# EAGLE library part 87264-30 (library con-molex-milli-grid)
RECEPTACAL
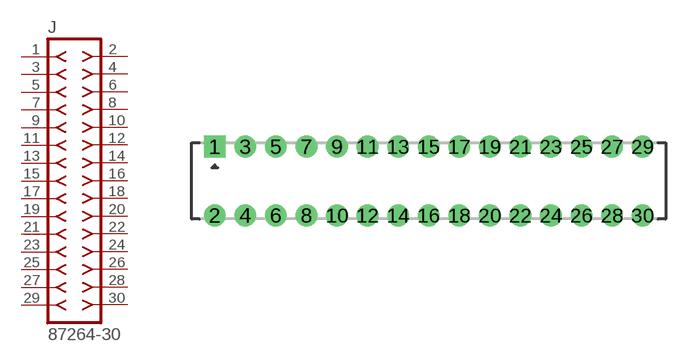
[diagram p216: symbol with the pads of 87264-30; footprint 87264-30]

Designator prefix J

## 87264-30  [87264-30]
1  1  pas
2  2  pas
3  3  pas
4  4  pas
5  5  pas
6  6  pas
7  7  pas
8  8  pas
9  9  pas
10  10  pas
11  11  pas
12  12  pas
13  13  pas
14  14  pas
15  15  pas
16  16  pas
17  17  pas
18  18  pas
19  19  pas
20  20  pas
21  21  pas
22  22  pas
23  23  pas
24  24  pas
25  25  pas
26  26  pas
27  27  pas
28  28  pas
29  29  pas
30  30  pas

## Footprint 87264-30 (pad centres in mm)
RECEPTACAL Dual Row, Side Entry
drill 0.914 square: 1 -14,2.25
drill 0.914: 2 -14,-2.25; 3 -12,2.25; 4 -12,-2.25; 5 -10,2.25; 6 -10,-2.25; 7 -8,2.25; 8 -8,-2.25; 9 -6,2.25; 10 -6,-2.25; 11 -4,2.25; 12 -4,-2.25; 13 -2,2.25; 14 -2,-2.25; 15 0,2.25; 16 0,-2.25; 17 2,2.25; 18 2,-2.25; 19 4,2.25; 20 4,-2.25; 21 6,2.25; 22 6,-2.25; 23 8,2.25; 24 8,-2.25; 25 10,2.25; 26 10,-2.25; 27 12,2.25; 28 12,-2.25; 29 14,2.25; 30 14,-2.25